# Altium schematic symbol library MULTI RELY.SCHLIB: 40 symbols
Pins are listed as number, name and electrical type; pins without a type are passive.

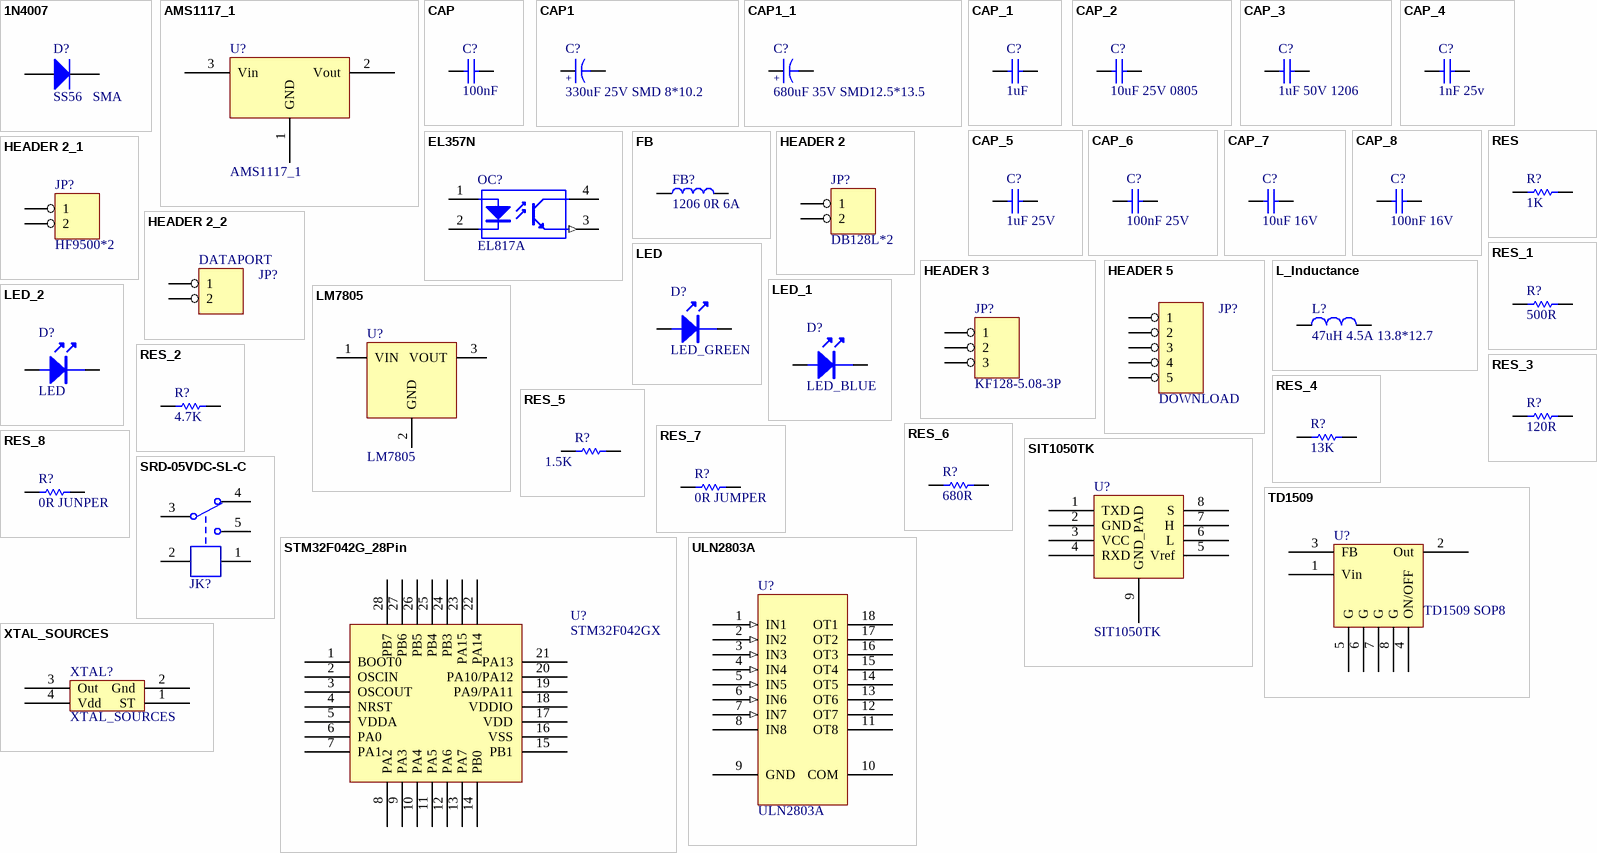
[diagram p0: symbols 1N4007 to XTAL_SOURCES]

## 1N4007
designator D?, comment SS56   SMA
High Conductance Fast Diode; Published: 8-Jun-2000; LatestRevisionDate: 17-Jul-2002; LatestRevisionNote: Re-released for DXP Platform.; DatasheetDocument: 1997; PackageReference: DO-35; Publisher: Altium Limited; Code_JEDEC: DO-204-AH; ComponentLink1Description: Manufacturer Link; ComponentLink1URL: http://www.fairchildsemi.com/; ComponentLink2Description: Datasheet; ComponentLink2URL: http://www.fairchildsemi.com/ds/1N%2F1N4448.pdf
footprint SMA/DO-214AC (塑封二极管)
pins: 1 A, 2 K

## AMS1117_1
designator U?
三端稳压芯片
footprint SOT-223 (ASM1117系列)
pins: 1 GND, 2 Vout, 3 Vin

## CAP
designator C?, comment 100nF
Capacitor; Value: 104; Published: 8-Jun-2000; LatestRevisionDate: 17-Jul-2002; LatestRevisionNote: Re-released for DXP Platform.; PackageReference: RAD-0.3; Publisher: Altium Limited
footprint 0603C
pins: 1, 2

## CAP1
designator C?, comment 330uF 25V SMD 8*10.2
footprint SMD-EC8X8X10
pins: 1, 2
text: +

## CAP1_1
designator C?, comment 680uF 35V SMD12.5*13.5
footprint SMD-EC-F12.5
pins: 1, 2
text: +

## CAP_1
designator C?, comment 1uF
Capacitor; Value: 104; Published: 8-Jun-2000; LatestRevisionDate: 17-Jul-2002; LatestRevisionNote: Re-released for DXP Platform.; PackageReference: RAD-0.3; Publisher: Altium Limited
footprint 0603C
pins: 1, 2

## CAP_2
designator C?, comment 10uF 25V 0805
Capacitor; Value: 104; Published: 8-Jun-2000; LatestRevisionDate: 17-Jul-2002; LatestRevisionNote: Re-released for DXP Platform.; PackageReference: RAD-0.3; Publisher: Altium Limited
footprint 0805C
pins: 1, 2

## CAP_3
designator C?, comment 1uF 50V 1206
Capacitor; Value: 104; Published: 8-Jun-2000; LatestRevisionDate: 17-Jul-2002; LatestRevisionNote: Re-released for DXP Platform.; PackageReference: RAD-0.3; Publisher: Altium Limited
footprint 1206C
pins: 1, 2

## CAP_4
designator C?, comment 1nF 25v
Capacitor; Value: 104; Published: 8-Jun-2000; LatestRevisionDate: 17-Jul-2002; LatestRevisionNote: Re-released for DXP Platform.; PackageReference: RAD-0.3; Publisher: Altium Limited
footprint 0603C
pins: 1, 2

## CAP_5
designator C?, comment 1uF 25V
Capacitor; Value: 104; Published: 8-Jun-2000; LatestRevisionDate: 17-Jul-2002; LatestRevisionNote: Re-released for DXP Platform.; PackageReference: RAD-0.3; Publisher: Altium Limited
footprint 0603C
pins: 1, 2

## CAP_6
designator C?, comment 100nF 25V
Capacitor; Value: 104; Published: 8-Jun-2000; LatestRevisionDate: 17-Jul-2002; LatestRevisionNote: Re-released for DXP Platform.; PackageReference: RAD-0.3; Publisher: Altium Limited
footprint 0603C
pins: 1, 2

## CAP_7
designator C?, comment 10uF 16V
Capacitor; Value: 104; Published: 8-Jun-2000; LatestRevisionDate: 17-Jul-2002; LatestRevisionNote: Re-released for DXP Platform.; PackageReference: RAD-0.3; Publisher: Altium Limited
footprint 0805C
pins: 1, 2

## CAP_8
designator C?, comment 100nF 16V
Capacitor; Value: 104; Published: 8-Jun-2000; LatestRevisionDate: 17-Jul-2002; LatestRevisionNote: Re-released for DXP Platform.; PackageReference: RAD-0.3; Publisher: Altium Limited
footprint 0603C
pins: 1, 2

## EL357N
designator OC?, comment EL817A
线性光耦
footprint SMD_PC817
pins: 1 A "Anode", 2 K "Cathode", 3 E (out) "Emitter", 4 C "Collector"

## FB
designator FB?, comment 1206 0R 6A
磁珠
footprint 0805L (小功率贴片电感)
pins: 1, 2

## HEADER 2
designator JP?, comment DB128L*2
footprint KF128-5.08-2P (螺钉式接线端子，脚距5.08mm)
pins: 1, 2

## HEADER 2_1
designator JP?, comment HF9500*2
footprint KF128-5.08-2P (螺钉式接线端子，脚距5.08mm)
pins: 1, 2

## HEADER 2_2
designator JP?, comment DATAPORT
footprint header2
pins: 1, 2

## HEADER 3
designator JP?, comment KF128-5.08-3P
footprint KF128-5.08-3P (螺钉式接线端子，脚距5.08mm)
pins: 1, 2, 3

## HEADER 5
designator JP?, comment DOWNLOAD
footprint header5
pins: 1, 2, 3, 4, 5

## L_Inductance
designator L?, comment 47uH 4.5A 13.8*12.7
footprint CDRH129 (12*12*9.5mm（长宽高）)
pins: 1, 2

## LED
designator D?, comment LED_GREEN
LED 发光二极管
footprint LED-0603G
pins: 1 A, 2 K

## LED_1
designator D?, comment LED_BLUE
LED 发光二极管
footprint LED-0603G
pins: 1 A, 2 K

## LED_2
designator D?, comment LED
LED 发光二极管
footprint LED-0603G
pins: 1 A, 2 K

## LM7805
designator U?
footprint TO252 (252晶体管)
pins: 1 VIN, 2 GND, 3 VOUT

## RES
designator R?, comment 1K
Resistor; Published: 8-Jun-2000; Revision: July-2002: Re-released for DXP Platform.; Publisher: Altium Limited; Value: 1K
footprint 0603R
pins: 1, 2
2 alternate drawings of the same symbol

## RES_1
designator R?, comment 500R
Resistor; Value: 1K; Published: 8-Jun-2000; Revision: July-2002: Re-released for DXP Platform.; Publisher: Altium Limited
footprint 0805R
pins: 1, 2
2 alternate drawings of the same symbol

## RES_2
designator R?, comment 4.7K
Resistor; Value: 1K; Published: 8-Jun-2000; Revision: July-2002: Re-released for DXP Platform.; Publisher: Altium Limited
footprint 0603R
pins: 1, 2
2 alternate drawings of the same symbol

## RES_3
designator R?, comment 120R
Resistor; Value: 1K; Published: 8-Jun-2000; Revision: July-2002: Re-released for DXP Platform.; Publisher: Altium Limited
footprint 0603R
pins: 1, 2
2 alternate drawings of the same symbol

## RES_4
designator R?, comment 13K
Resistor; Value: 1K; Published: 8-Jun-2000; Revision: July-2002: Re-released for DXP Platform.; Publisher: Altium Limited
footprint 0603R
pins: 1, 2
2 alternate drawings of the same symbol

## RES_5
designator R?, comment 1.5K
Resistor; Value: 1K; Published: 8-Jun-2000; Revision: July-2002: Re-released for DXP Platform.; Publisher: Altium Limited
footprint 0603R
pins: 1, 2
2 alternate drawings of the same symbol

## RES_6
designator R?, comment 680R
Resistor; Value: 1K; Published: 8-Jun-2000; Revision: July-2002: Re-released for DXP Platform.; Publisher: Altium Limited
footprint 0805R
pins: 1, 2
2 alternate drawings of the same symbol

## RES_7
designator R?, comment 0R JUMPER
Resistor; Value: 1K; Published: 8-Jun-2000; Revision: July-2002: Re-released for DXP Platform.; Publisher: Altium Limited
footprint 2512R
pins: 1, 2
2 alternate drawings of the same symbol

## RES_8
designator R?, comment 0R JUNPER
Resistor; Value: 1K; Published: 8-Jun-2000; Revision: July-2002: Re-released for DXP Platform.; Publisher: Altium Limited
footprint 2512R
pins: 1, 2
2 alternate drawings of the same symbol

## SIT1050TK
designator U?
CAN IC,SOIC-8 FootPin,Less SIze than TJA1050
footprint SO-8 (QFN, 8-Leads, Body 3.00x3.00mm, Pitch 0.65mm, Thermal Pad 2.30x1.50mm, IPC Low Density)
pins: 1 TXD, 2 GND, 3 VCC, 4 RXD, 5 Vref, 6 L, 7 H, 8 S, 9 GND_PAD

## SRD-05VDC-SL-C
designator JK?  (value not drawn)
5V一组转换
footprint SRD-C_B (单刀双投)
pins: 1, 2, 3, 4, 5

## STM32F042G_28Pin
designator U?, comment STM32F042GX
footprint UFQFPN28
pins: 1 BOOT0, 2 OSCIN, 3 OSCOUT, 4 NRST, 5 VDDA, 6 PA0, 7 PA1, 8 PA2, 9 PA3, 10 PA4, 11 PA5, 12 PA6, 13 PA7, 14 PB0, 15 PB1, 16 VSS (power), 17 VDD, 18 VDDIO, 19 PA9/PA11, 20 PA10/PA12, 21 PA13, 22 PA14, 23 PA15, 24 PB3, 25 PB4, 26 PB5, 27 PB6, 28 PB7

## TD1509
designator U?, comment TD1509 SOP8
footprint SOP8
pins: 1 Vin, 2 Out, 3 FB, 4 ON/OFF, 5 G, 6 G, 7 G, 8 G

## ULN2803A
designator U?
8 channels Darlington
footprint SOP18 - 300mil
pins: 1 IN1 (in), 2 IN2 (in), 3 IN3 (in), 4 IN4 (in), 5 IN5 (in), 6 IN6 (in), 7 IN7 (in), 8 IN8, 9 GND (power), 10 COM (power), 11 OT8, 12 OT7, 13 OT6, 14 OT5, 15 OT4, 16 OT3, 17 OT2, 18 OT1

## XTAL_SOURCES
designator XTAL?
footprint XTAL_SOURCES
pins: 1 ST, 2 Gnd, 3 Out, 4 Vdd